# Altium footprint library SOP6P95_290X280X125L45X37N.PcbLib: 1 footprints
Each footprint in its own frame and in the unit in brackets; x right, y up, seen from the top. Pads: shape width x height; smd on the part's side, far side on the other; paste and mask are expansions set on the pad; w line width, h text height; cw(c..) or ccw(c..) is an arc to the next point about the centre after c.
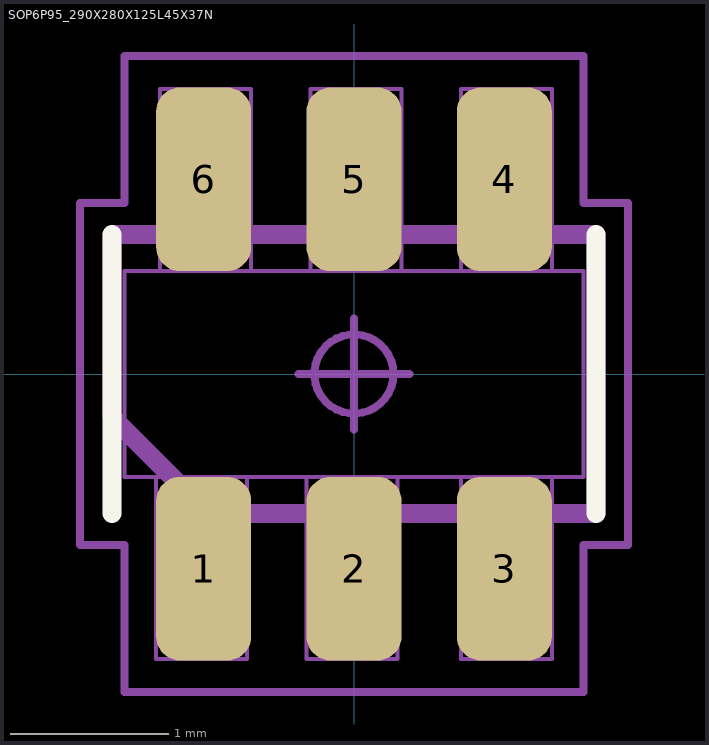
[diagram p0: the footprint, top view; thin cyan lines are the x and y axes]

## SOP6P95_290X280X125L45X37N [mm] "Small Outline Pkg (SOP), 0.95 mm pitch; 6 pin, 2.90 mm L X 1.60 mm W X 1.25 mm H body"
height 1.25
pads (6):
  rrect50% 0.6x1.16 smd: 1(-0.95,-1.23) 2(0,-1.23) 3(0.95,-1.23) 4(0.95,1.23) 5(0,1.23) 6(-0.95,1.23)
Top Overlay:
  lines w0.12: -1.53,-0.88 -1.53,0.88 ; 1.53,-0.88 1.53,0.88
Mechanical 3:
  lines w0.12: -1.53,-0.27 -1.53,0.88 1.53,0.88 1.53,-0.88 -0.92,-0.88 -1.53,-0.27
Mechanical 5:
  lines w0.025: -1.45,-0.65 1.45,-0.65 1.45,0.65 -1.45,0.65 -1.45,-0.65 ; -1.25,-1.8 -1.25,-0.65 -0.675,-0.65 -0.675,-1.8 -1.25,-1.8 ; -1.225,0.65 -1.225,1.8 -0.65,1.8 -0.65,0.65 -1.225,0.65 ; -0.3,-1.8 -0.3,-0.65 0.275,-0.65 0.275,-1.8 -0.3,-1.8 ; -0.275,0.65 -0.275,1.8 0.3,1.8 0.3,0.65 -0.275,0.65 ; 0.675,-1.8 0.675,-0.65 1.25,-0.65 1.25,-1.8 0.675,-1.8 ; 0.675,0.65 0.675,1.8 1.25,1.8 1.25,0.65 0.675,0.65
Mechanical 7:
  circle w0.05: c0,0 r0.25
  lines w0.05: -0.35,0 0.35,0 ; 0,-0.35 0,0.35 ; -1.73,-1.08 -1.45,-1.08 -1.45,-2.01 1.45,-2.01 1.45,-1.08 1.73,-1.08 1.73,1.08 1.45,1.08 1.45,2.01 -1.45,2.01 -1.45,1.08 -1.73,1.08 -1.73,-1.08
Mechanical 9:
  text "'.Designator'" at -6.073,-0.334 h1.02
3D body: height 0.25, standoff 0, extent -1.725,-2 1.725,2
3D body "SOP6P95_290X280X125L45X37.STEP": height 1.25, standoff 0, extent -1.45,-1.4 1.45,1.4
3D body: height 1.04, standoff 0, extent -1.73,-2.01 1.73,2.01